# Altium schematic symbol library C1608X7R1E104K080AA.SchLib: 1 symbol
Pins are listed as number, name and electrical type; pins without a type are passive.

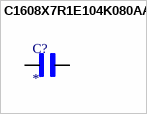
[diagram p0: symbol C1608X7R1E104K080AA]

## C1608X7R1E104K080AA
designator C?
MF: {'manufacturer': u'TDK'}; MP: C1608X7R1E104K080AA; Package: None; Price: None; Value: *; Availability: Unavailable
footprint CAPC1608X90N
pins: 1, 2